# EAGLE library part PTH08T220/1W (library pth08)
16A 4.5V to 14V Input adjustable Power Module
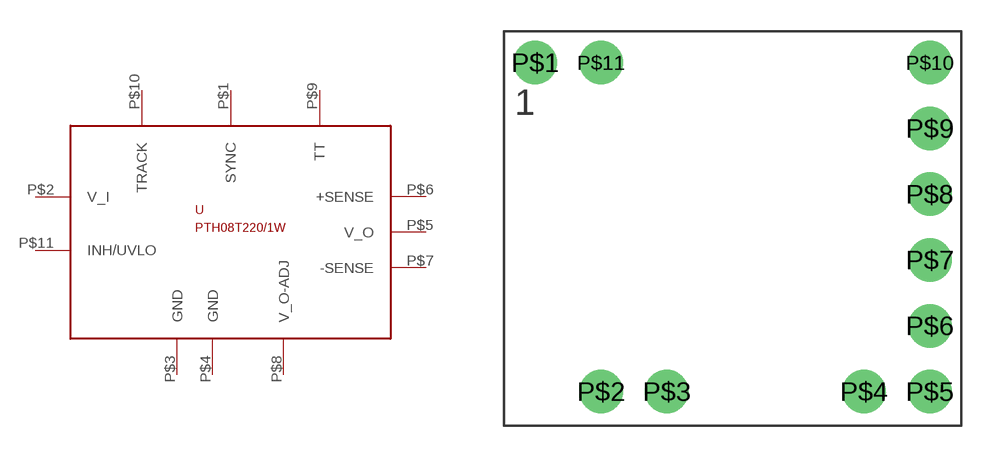
[diagram p1: symbol with the pads of EAS; footprint EAS]

Designator prefix -

## PTH08T220/1WAD  [EAS]
P$1  SYNC
P$2  V_I  pwr
P$3  GND  pwr
P$4  GND  pwr
P$5  V_O  sup
P$6  +SENSE
P$7  -SENSE
P$8  V_O-ADJ
P$9  TT
P$10  TRACK
P$11  INH/UVLO

## Footprint EAS (pad centres in mm)
drill 1.4: P$1 -9.525,6.985; P$2 -6.35,-8.89; P$3 -3.175,-8.89; P$4 6.35,-8.89; P$5 9.525,-8.89; P$6 9.525,-5.715; P$7 9.525,-2.54; P$8 9.525,0.635; P$9 9.525,3.81; P$10 9.525,6.985; P$11 -6.35,6.985